# Altium schematic symbol library UBD.Schlib: 1 symbol
Pins are listed as number, name and electrical type; pins without a type are passive.

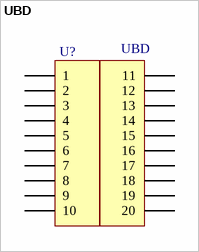
[diagram p0: symbol UBD]

## UBD
designator U?
Универсальный программатор; Наименование: УБД; Назначение: Универсальный программатор
footprint UBD
pins: 1, 2, 3, 4, 5, 6, 7, 8, 9, 10, 11, 12, 13, 14, 15, 16, 17, 18, 19, 20